# EAGLE library part ADXL330 (library IC)
http://search.digikey.com/scripts/DkSearch/dksus.dll?Detail&name=ADXL330KCPZ-RLTR-ND
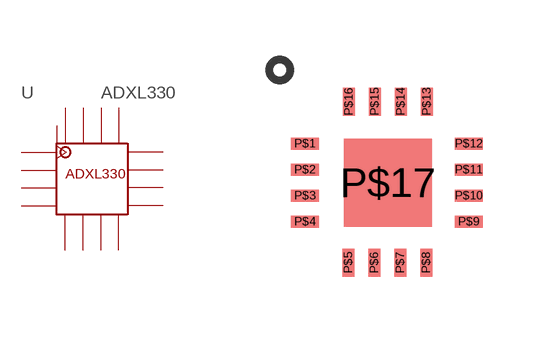
[diagram p8: symbol with the pads of LFCSP16; footprint LFCSP16]

Designator prefix U

## ADXL330-LFCSP_LQ  [LFCSP16]
P$1  NC0  nc
P$2  ST
P$3  GND0  sup
P$4  NC1  nc
P$5  GND1  sup
P$6  GND2  sup
P$7  GND3  sup
P$8  Z_OUT
P$9  NC2  nc
P$10  Y_OUT
P$11  NC3
P$12  X_OUT
P$13  NC4  nc
P$14  PW0  pwr
P$15  PW1  pwr
P$16  NC5  nc
P$17  P$17

## Footprint LFCSP16 (pad centres in mm)
smd 0.7 x 0.3: P$1 -2.075,0.975; P$2 -2.075,0.325; P$3 -2.075,-0.325; P$4 -2.075,-0.975; P$9 2.025,-0.975; P$10 2.025,-0.325; P$11 2.025,0.325; P$12 2.025,0.975
smd 0.3 x 0.7: P$5 -0.987,-2; P$6 -0.337,-2; P$7 0.313,-2; P$8 0.963,-2; P$13 0.975,2.025; P$14 0.325,2.025; P$15 -0.325,2.025; P$16 -0.975,2.025
smd 2.2 x 2.2: P$17 0,0